# EAGLE library part UC00A-SERIAL-6PIN (library Header and Connector)
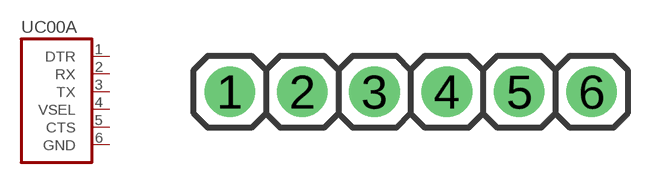
[diagram p28: symbol with the pads of HDR-M1X06; footprint HDR-M1X06]

Designator prefix UC00A

## UC00A-SERIAL-6PIN (DESC: UC00A SERIAL PIN TERMINAL)  [HDR-M1X06]
1  DTR  pas
2  RX  pas
3  TX  pas
4  VSEL  pas
5  CTS  pas
6  GND  pas

## Footprint HDR-M1X06 (pad centres in mm)
Male Header - 1X06
drill 1 pad 1.778: 1 0,0; 2 2.54,0; 3 5.08,0; 4 7.62,0; 5 10.16,0; 6 12.7,0